# EAGLE library part DSPIC33FJ32MC202 (library 0SBLib)
High-Performance, 16-bit Digital Signal Controller
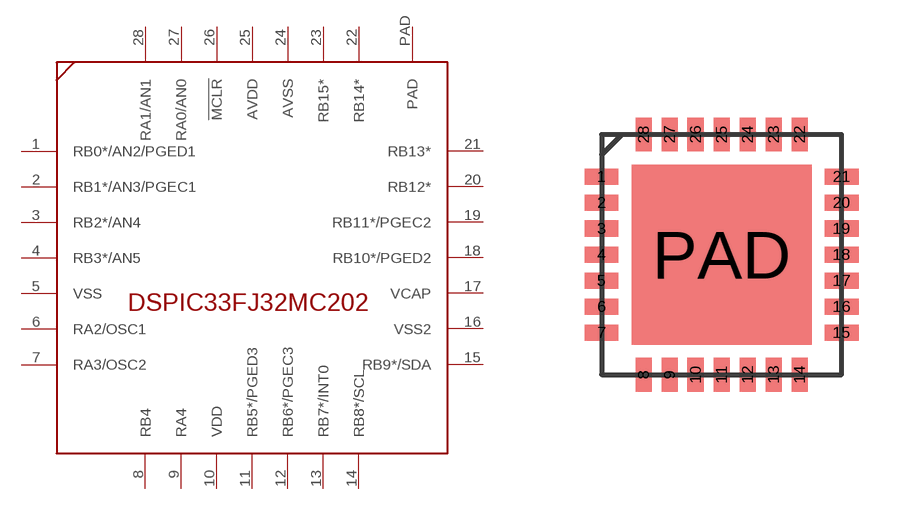
[diagram p8: symbol with the pads of QFN-S-28; footprint QFN-S-28]

Designator prefix -

## DSPIC33FJ32MC202  [QFN-S-28]
1  RB0*/AN2/PGED1
2  RB1*/AN3/PGEC1
3  RB2*/AN4
4  RB3*/AN5
5  VSS
6  RA2/OSC1
7  RA3/OSC2
8  RB4
9  RA4
10  VDD
11  RB5*/PGED3
12  RB6*/PGEC3
13  RB7*/INT0
14  RB8*/SCL
15  RB9*/SDA
16  VSS2
17  VCAP
18  RB10*/PGED2
19  RB11*/PGEC2
20  RB12*
21  RB13*
22  RB14*
23  RB15*
24  AVSS
25  AVDD
26  !MCLR
27  RA0/AN0
28  RA1/AN1
PAD  PAD

## Footprint QFN-S-28 (pad centres in mm)
smd 0.85 x 0.4: 1 -3,1.95; 2 -3,1.3; 3 -3,0.65; 4 -3,0; 5 -3,-0.65; 6 -3,-1.3; 7 -3,-1.95; 15 3,-1.95; 16 3,-1.3; 17 3,-0.65; 18 3,0; 19 3,0.65; 20 3,1.3; 21 3,1.95
smd 0.4 x 0.85: 8 -1.95,-3; 9 -1.3,-3; 10 -0.65,-3; 11 0,-3; 12 0.65,-3; 13 1.3,-3; 14 1.95,-3; 22 1.95,3; 23 1.3,3; 24 0.65,3; 25 0,3; 26 -0.65,3; 27 -1.3,3; 28 -1.95,3
smd 4.5 x 4.5: PAD 0,0